# EAGLE library part DOTMATRIX (library my_led)
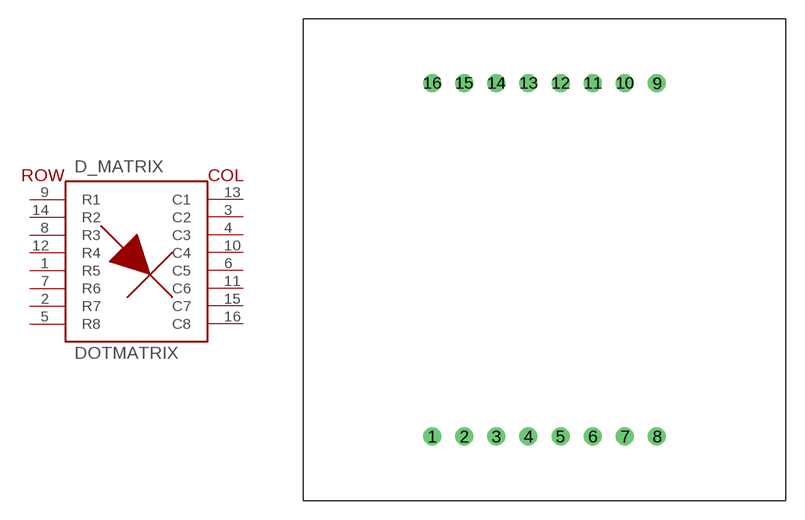
[diagram p0: symbol with the pads of DOTMATRIX; footprint DOTMATRIX]

Designator prefix D_MATRIX

## DOTMATRIX  [DOTMATRIX]
1  R5  pas
2  R7  pas
3  C2  pas
4  C3  pas
5  R8  pas
6  C5  pas
7  R6  pas
8  R3  pas
9  R1  pas
10  C4  pas
11  C6  pas
12  R4  pas
13  C1  pas
14  R2  pas
15  C7  pas
16  C8  pas

## Footprint DOTMATRIX (pad centres in mm)
drill 0.8 pad 1.422: 1 -8.89,-13.97; 2 -6.35,-13.97; 3 -3.81,-13.97; 4 -1.27,-13.97; 5 1.27,-13.97; 6 3.81,-13.97; 7 6.35,-13.97; 8 8.89,-13.97; 9 8.89,13.97; 10 6.35,13.97; 11 3.81,13.97; 12 1.27,13.97; 13 -1.27,13.97; 14 -3.81,13.97; 15 -6.35,13.97; 16 -8.89,13.97